# Altium schematic symbol library OPA-LMV321.SchLib: 1 symbol
Pins are listed as number, name and electrical type; pins without a type are passive.

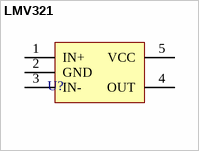
[diagram p0: symbol LMV321]

## LMV321
designator U?  (no BOM)
pins: 1 IN+, 2 GND, 3 IN-, 4 OUT, 5 VCC